# EAGLE library part FPF2700 (library balto)
FPF270X - .4-2A Adjustable Over-Current Protection Load Switches
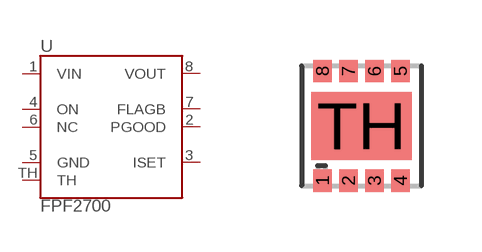
[diagram p45: symbol with the pads of MLP8; footprint MLP8]

Designator prefix U

## FPF2700-MPX  [MLP8]
1  VIN
2  PGOOD
3  ISET
4  ON
5  GND
6  NC
7  FLAGB
8  VOUT
TH  TH

## Footprint MLP8 (pad centres in mm)
smd 0.47 x 0.56: 1 -0.975,-1.37; 2 -0.325,-1.37; 3 0.325,-1.37; 4 0.975,-1.37; 5 0.975,1.37; 6 0.325,1.37; 7 -0.325,1.37; 8 -0.975,1.37
smd 2.52 x 1.7: TH 0,0